# Altium footprint library PJ1021SMTTR.PcbLib: 1 footprints
Each footprint in its own frame and in the unit in brackets; x right, y up, seen from the top. Pads: shape width x height; smd on the part's side, far side on the other; paste and mask are expansions set on the pad; w line width, h text height; cw(c..) or ccw(c..) is an arc to the next point about the centre after c.
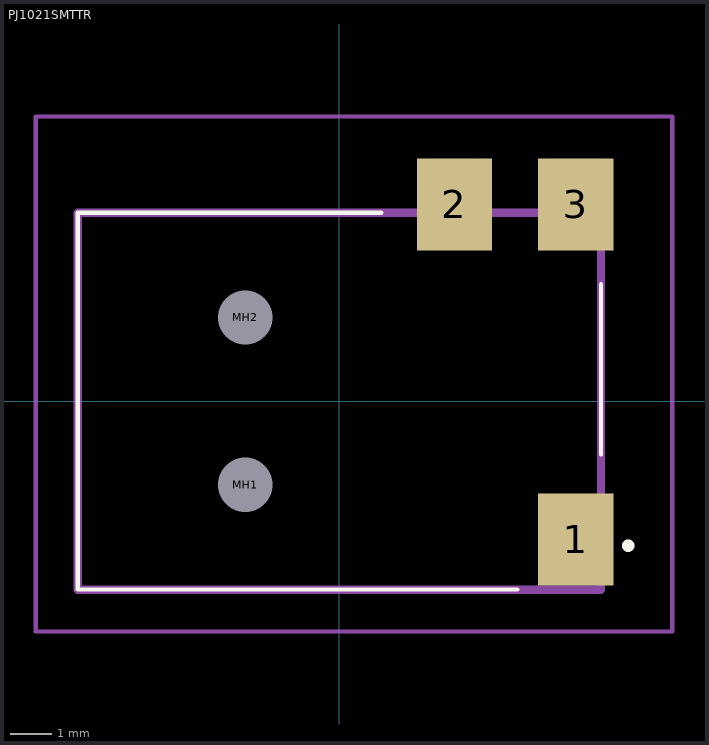
[diagram p0: the footprint, top view; thin cyan lines are the x and y axes]

## PJ1021SMTTR [mm]
pads (5):
  rect 1.8x2.2 smd: 1(5.65,-3.3) 2(2.75,4.7) 3(5.65,4.7)
  round 0.65 hole 1.3 unplated: MH1(-2.25,-2) MH2(-2.25,2)
Top Overlay:
  lines w0.1: -6.25,-4.5 -6.25,4.5 ; -6.25,-4.5 -6.25,-4.5 ; -6.25,-4.5 -6.25,4.5 ; -6.25,-4.5 4.25,-4.5 ; -6.25,-4.5 4.25,-4.5 ; -6.25,-4.5 -6.25,-4.5 ; -6.25,4.5 1,4.5 ; -6.25,4.5 -6.25,4.5 ; -6.25,4.5 1,4.5 ; -6.25,4.5 -6.25,4.5 ; 1,4.5 1,4.5 ; 4.25,-4.5 4.25,-4.5 ; 6.25,-1.27 6.25,2.794 ; 6.25,-1.27 6.25,-1.27 ; 6.25,-1.27 6.25,2.794 ; 6.25,2.794 6.25,2.794
  lines w0.2: 6.9,-3.5 6.9,-3.5 ; 6.9,-3.5 ccw(c6.9,-3.45) 6.9,-3.4 ; 6.9,-3.5 cw(c6.9,-3.45) 6.9,-3.4 ; 6.9,-3.5 6.9,-3.5 ; 6.9,-3.5 ccw(c6.9,-3.45) 6.9,-3.4 ; 6.9,-3.4 6.9,-3.4
Mechanical 15:
  lines w0.2: -6.25,-4.5 6.25,-4.5 6.25,4.5 -6.25,4.5 -6.25,-4.5
Mechanical 20:
  lines w0.1: -7.25,-5.5 7.95,-5.5 7.95,6.8 -7.25,6.8 -7.25,-5.5